# EAGLE library part 6CA4 (library FHD-RETRO)
6CA4 / EZ81 Mini Rectifier Tube
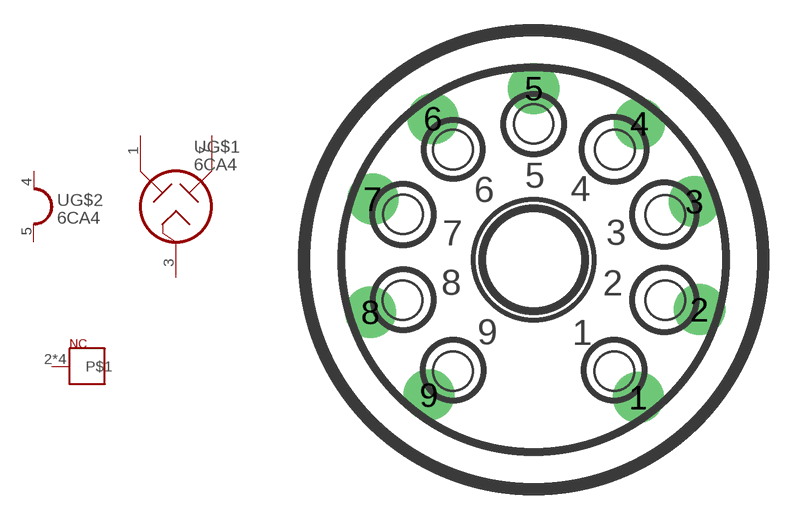
[diagram p9: symbol with the pads of NOVAL; footprint NOVAL]

Designator prefix -; gates G$1=RECTIFIER G$2=HEATER_1 G$3=NC

## 6CA4  [NOVAL]
1  G$1:TA1  pas
2  G$3:P$1  nc
3  G$1:TK  pas
4  G$2:H1  pas
5  G$2:H2  pas
6  G$3:P$1  nc
7  G$1:TA2  pas
8  G$3:P$1  nc
9  G$3:P$1  nc

## Footprint NOVAL (pad centres in mm)
drill 1.422 pad 2.54: 1 5.207,-6.858; 2 8.254,-2.484; 3 8.004,2.893; 4 5.258,6.77; 5 0,8.524; 6 -5.004,7.024; 7 -8.004,3.02; 8 -8.127,-2.611; 9 -5.207,-6.731